# Altium footprint library bornier a visser 3 poles 5.08 KF 128-2P.PcbLib: 2 footprints
Each footprint in its own frame and in the unit in brackets; x right, y up, seen from the top. Pads: shape width x height; smd on the part's side, far side on the other; paste and mask are expansions set on the pad; w line width, h text height; cw(c..) or ccw(c..) is an arc to the next point about the centre after c.
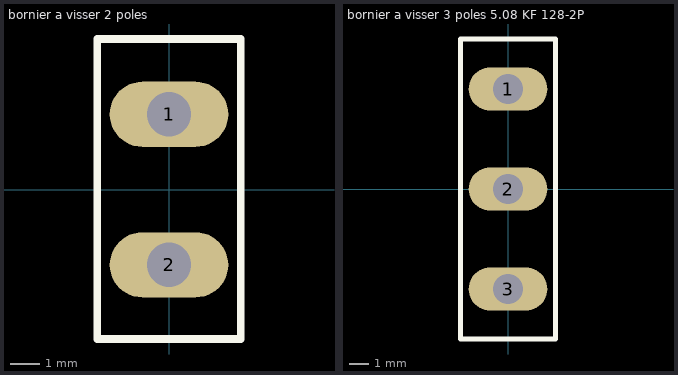
[diagram p0: the footprints below, top view; thin cyan lines are the x and y axes]

## bornier a visser 2 poles [mm]
pads (2):
  oval 4x2.2 hole 1.5: 1(0,2.54) 2(0,-2.54)
Top Overlay:
  lines w0.254: -2.413,-5.04 -2.413,5.08 2.413,5.08 2.413,-5.04 -2.413,-5.04
3D body "User Library-screew terminal.X_B": height 14.15, standoff -3.8, extent -5.3,-4.96 5,5.64

## bornier a visser 3 poles 5.08 KF 128-2P [mm]
pads (3):
  oval 4x2.2 hole 1.5: 1(0,5.08) 2(0,0) 3(0,-5.08)
Top Overlay:
  lines w0.254: -2.413,-7.62 -2.413,7.62 2.413,7.62 2.413,-7.62 -2.413,-7.62
3D body "User Library-screew terminal(1).X_B": height 14.15, standoff -3.8, extent -5.3,-7.42 5,8.18